# EAGLE library part 614008235023 (library WR-USB)
WR-COM USB 2.0 Type A Vertical Dual Kind Properties Durability:1500 Mating cycles Quality Class:1 500 Mating cycles Connector Type:USB Gender:Receptacle Type:Stacked Vertical General Information Operating Temperature:-40up to +105 °C Compliance:RoHS Electrical Properties IR 1:1.5 A Working Voltage:30V (AC) Withstanding Voltage:750V (AC) Contact Resistance:20 mΩ Material Properties Insulator Material:PBT Insulator Flammability Rating:UL94 V-0 Color:White Cover Material:Brass Cover Plating:Nickel Contact Material:Copper Alloy Contact Plating:Selective Gold Contact Type:Stamped Shielding Material:Brass Shielding Plating:Nickel <https://www.we-online.com/catalog/media/o32987v209%20Family_WR-COM_614008235023.jpg> Details see: https://www.we-online.com/catalog/en/COM_TYPE_A_VERTICAL/ Updated by Yingchun, Shan 2020-01-16 2020 (C) W��rth Elektronik
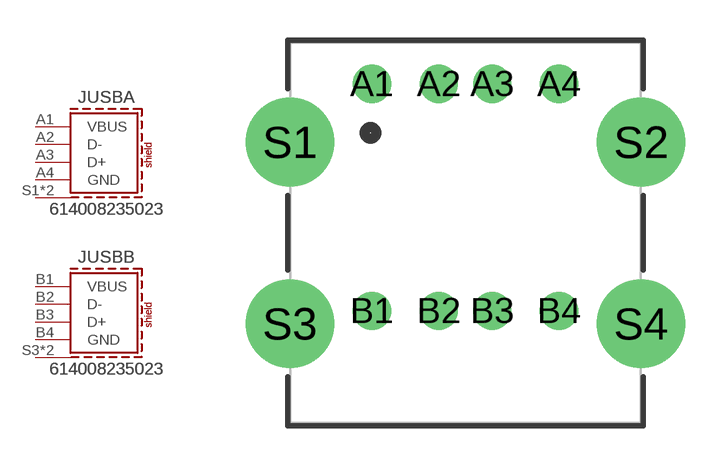
[diagram p28: symbol with the pads of 614008235023; footprint 614008235023]

Designator prefix J; gates USBA=USB2.0_TYPEA USBB=USB2.0_TYPEA

## 614008235023 (APPLICATION: USB 2.0; DATASHEET-URL: https://www.we-online.com/redexpert/spec/614008235023?ae; GERDER: Receptacle; INTERFACE-TYPE: Type A; IR: 1.5A; MOUNT: THT; PACKAGING: Tray; PART-NUMBER: 614008235023; PINS: 8; TYPE: Stacked Vertical; VALUE: 614008235023; WORKING-VOLTAGE: 30V(AC))  [614008235023]
A1  USBA:VBUS  pas
A2  USBA:D-  pas
A3  USBA:D+  pas
A4  USBA:GND  pas
B1  USBB:VBUS  pas
B2  USBB:D-  pas
B3  USBB:D+  pas
B4  USBB:GND  pas
S1  USBA:SHIELD  pas
S2  USBA:SHIELD  pas
S3  USBB:SHIELD  pas
S4  USBB:SHIELD  pas

## Footprint 614008235023 (pad centres in mm)
WR-COM USB 2.0 Type A Vertical Dual
drill 0.92: A1 -3.5,5.58; A2 -1,5.58; A3 1,5.58; A4 3.5,5.58; B1 -3.5,-2.92; B2 -1,-2.92; B3 1,-2.92; B4 3.5,-2.92
drill 2.3: S1 -6.57,3.4; S2 6.57,3.4; S3 -6.57,-3.4; S4 6.57,-3.4